# EAGLE library part RASPBERRY-PI-P5 (library arno)
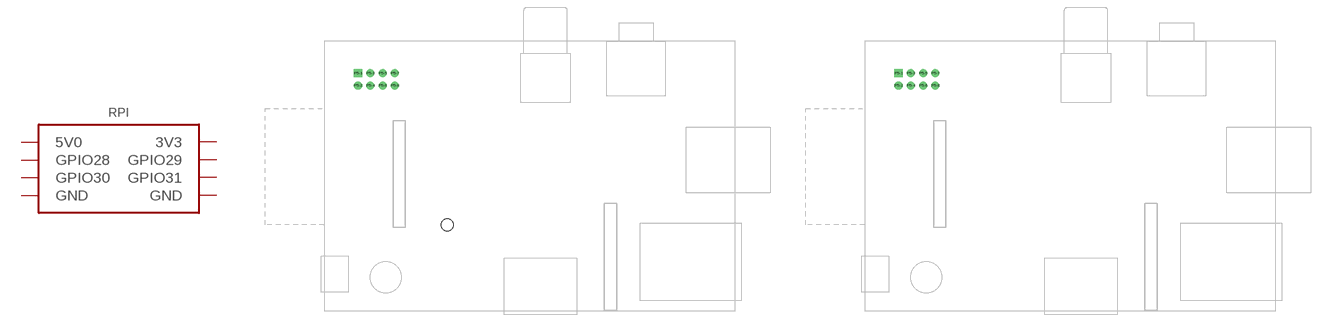
[diagram p15: symbol with the pads of RBPI-B2-P5; footprints RBPI-B2-P5, RBPI-B2-P5-NOHOLES]

Designator prefix RPI

## RASPBERRY-PI-P5-HOLES  [RBPI-B2-P5]
P5-1  5V0  pwr
P5-2  3V3  pwr
P5-3  GPIO28
P5-4  GPIO29
P5-5  GPIO30
P5-6  GPIO31
P5-7  GND  pwr
P5-8  GND  pwr

## RASPBERRY-PI-P5-NOHOLES  [RBPI-B2-P5-NOHOLES]
Pads as for RBPI-B2-P5

## Footprint RBPI-B2-P5 (pad centres in mm)
drill 1 pad 1.676 square: P5-1 6.985,49.212
drill 1 pad 1.676: P5-2 6.985,46.672; P5-3 9.525,49.212; P5-4 9.525,46.672; P5-5 12.065,49.212; P5-6 12.065,46.672; P5-7 14.605,49.212; P5-8 14.605,46.672
hole 2.5 at 25.4,17.78

## Footprint RBPI-B2-P5-NOHOLES (pad centres in mm)
drill 1 pad 1.676 square: P5-1 6.985,49.212
drill 1 pad 1.676: P5-2 6.985,46.672; P5-3 9.525,49.212; P5-4 9.525,46.672; P5-5 12.065,49.212; P5-6 12.065,46.672; P5-7 14.605,49.212; P5-8 14.605,46.672